# Altium schematic symbol library Altium-PROT.SchLib: 32 symbols
Pins are listed as number, name and electrical type; pins without a type are passive.

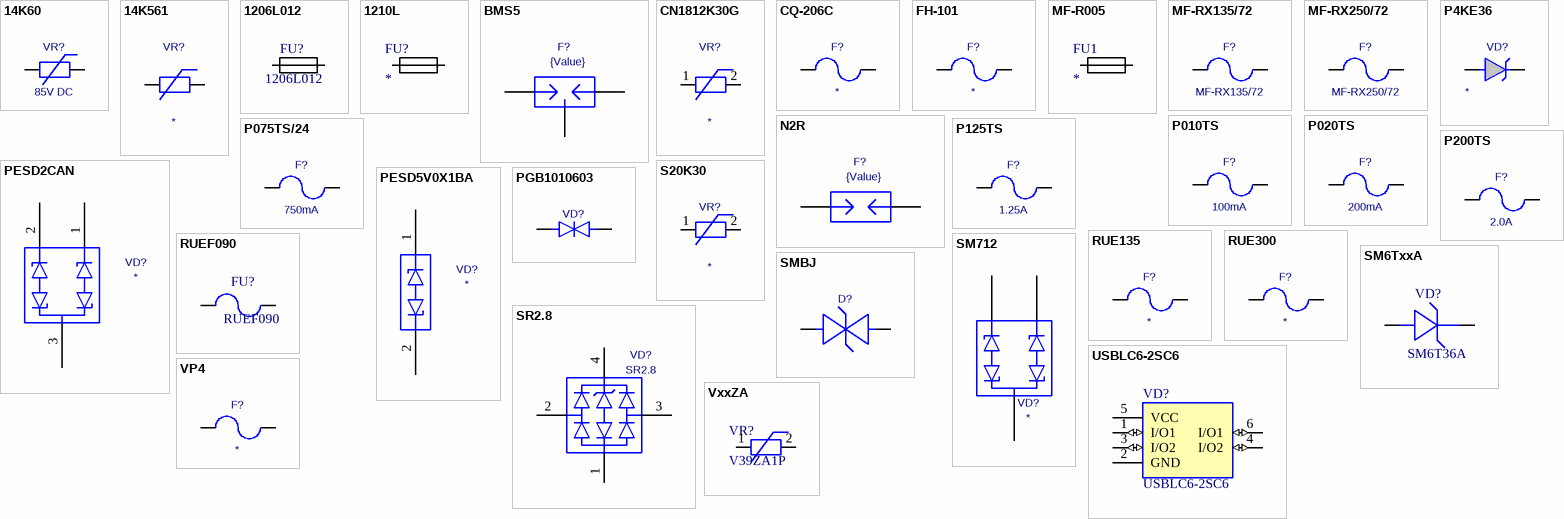
[diagram p0: symbols 14K60 to VxxZA]

## 14K60
designator VR?, comment 85V DC
Varistor 60V RMS (85V DC); Value: 85V DC
footprint S14KXXX - 1.5mm
pins: 1, 2 1

## 14K561
designator VR?
Varistor 560V RMS; Value: *
footprint S14KXXX
pins: 1, 2 1

## 1206L012
designator FU?
Resettable PTCs (fuse)
footprint 1206L
pins: 1, 2

## 1210L
designator FU?
Resettable fuse 1210
footprint C-3225[1210]
pins: 1, 2

## BMS5
designator F?  value {Value}  (hidden comment: *)
Surge Arrester 3-Electrode; Prec: {Prec}; Pack: {Pack}; Term: {Term}; Power: {Power}
footprint BMS5
pins: 1, 2, 3

## CN1812K30G
designator VR?
Varistor 30V RMS; Value: *
footprint CN1812
pins: 1, 2 1

## CQ-206C
designator F?
Fuse holder; Value: *
footprint CQ-206C (PANEL MOUNT FUSE BLOCK)
pins: 1, 2

## FH-101
designator F?
Fuse holder; Value: *
footprint FH-101
pins: 1, 2

## MF-R005
designator FU1
Resettable fuse 100mA
footprint MF-R005
pins: 1, 2

## MF-RX135/72
designator F?
PTC Resettable Fuses 1.35A, 72V; Value: MF-RX135/72
footprint MF-RX135
pins: 1 2, 2 1

## MF-RX250/72
designator F?
PTC Resettable Fuses 2.5A, 72V; Value: MF-RX250/72
footprint MF-RX250
pins: 1 2, 2 1

## N2R
designator F?  value {Value}  (hidden comment: *)
Surge Arrester 2-Electrode; Prec: {Prec}; Pack: {Pack}; Term: {Term}; Power: {Power}
footprint JN2R
pins: 1, 2

## P4KE36
designator VD?
Suppressor diode; Value: *
footprint DO-41
footprint DO-41 - VERT
pins: 1 K, 2 A

## P010TS
designator F?  value 100mA  (hidden comment: *)
Fuse 0805 100mA, max 15V
footprint F-2012[0805]
footprint F-4532[1812]
pins: 1, 2

## P020TS
designator F?  value 200mA  (hidden comment: *)
Fuse 0805 200mA, max 9V
footprint F-2012[0805]
footprint F-4532[1812]
pins: 1, 2

## P075TS/24
designator F?  value 750mA  (hidden comment: *)
Fuse 1812 750mA, max 24V
footprint F-4532[1812]
pins: 1, 2

## P125TS
designator F?  value 1.25A  (hidden comment: *)
Fuse 1812 1.25A, max 15V
footprint F-4532[1812]
pins: 1, 2

## P200TS
designator F?  value 2.0A  (hidden comment: *)
Fuse 1812 2.0A, max 15V
footprint F-4532[1812]
pins: 1, 2

## PESD2CAN
designator VD?
CAN bus ESD protection diode; Value: *
footprint SOT-23
pins: 1, 2, 3

## PESD5V0X1BA
designator VD?
ESD protection diode, low capacity
footprint SOD-323
pins: 1, 2

## PGB1010603
designator VD?  (value not drawn)
Surface Mount Polymeric ESD Suppressors; Value: *
footprint CHIP1608[0603]
pins: 1, 2

## RUE135
designator F?
PTC Resettable Fuses 1.35A; Value: *
footprint RUE300
pins: 1 2, 2 1

## RUE300
designator F?
PTC Resettable Fuses 3A; Value: *
footprint RUE300
pins: 1 2, 2 1

## RUEF090
designator FU?
PTC Resettable Fuses 0.9A; Value: RUEF090
footprint RUEF090
pins: 1 2, 2 1

## S20K30
designator VR?
Varistor 30V RMS; Value: *
footprint S20KXXX
footprint S20Kxxx HORIZ
footprint S20Kxxx VERTICAL
pins: 1, 2 1

## SM6TxxA
designator VD?, comment SM6T36A
Unidirectional Transil™; Value: SM6T36A
footprint SMB (http://www.vishay.com/docs/95017/smb.pdf)
pins: 1, 2

## SM712
designator VD?
differencial bus ESD protection diode; Value: *
footprint SOT-23
pins: 1, 2, 3

## SMBJ
designator D?  (value not drawn)
Supressor diode; Value: *
footprint SMB (Footprint not found)
pins: 1, 2

## SR2.8
designator VD?
Low Capacitance TVS Diode Array; Value: SR2.8
footprint SOT143_L (SOT143, 4-Leads, Body 2.9x1.3mm, Pitch 1.9mm, Lead Span 2.3mm, IPC High Density)
pins: 1, 2, 3, 4

## USBLC6-2SC6
designator VD?
Data Lines Protection, 2-Input Line Filter + ESD + Vbus
footprint SOT-23-6&SOT26 (http://www.nxp.com/acrobat_download/packages/SOT457.pdf)
pins: 1 I/O1 (io) "Input/Output 1", 2 GND (power) "Ground", 3 I/O2 (io) "Input/Output 2", 4 I/O2 (io) "Input/Output 2", 5 VCC (power) "Supply", 6 I/O1 (io) "Input/Output 1"

## VP4
designator F?
Fuse (ÂÏ4); Value: *
footprint VP4
footprint VP4 - VERT
pins: 1, 2

## VxxZA
designator VR?, comment V39ZA1P
Radial Lead Varistor; Value: V39ZA1P
footprint MF-RX135
pins: 1, 2 1